# Altium schematic symbol library WE-XTAL.SchLib: 324 symbols (part 5 of 6)
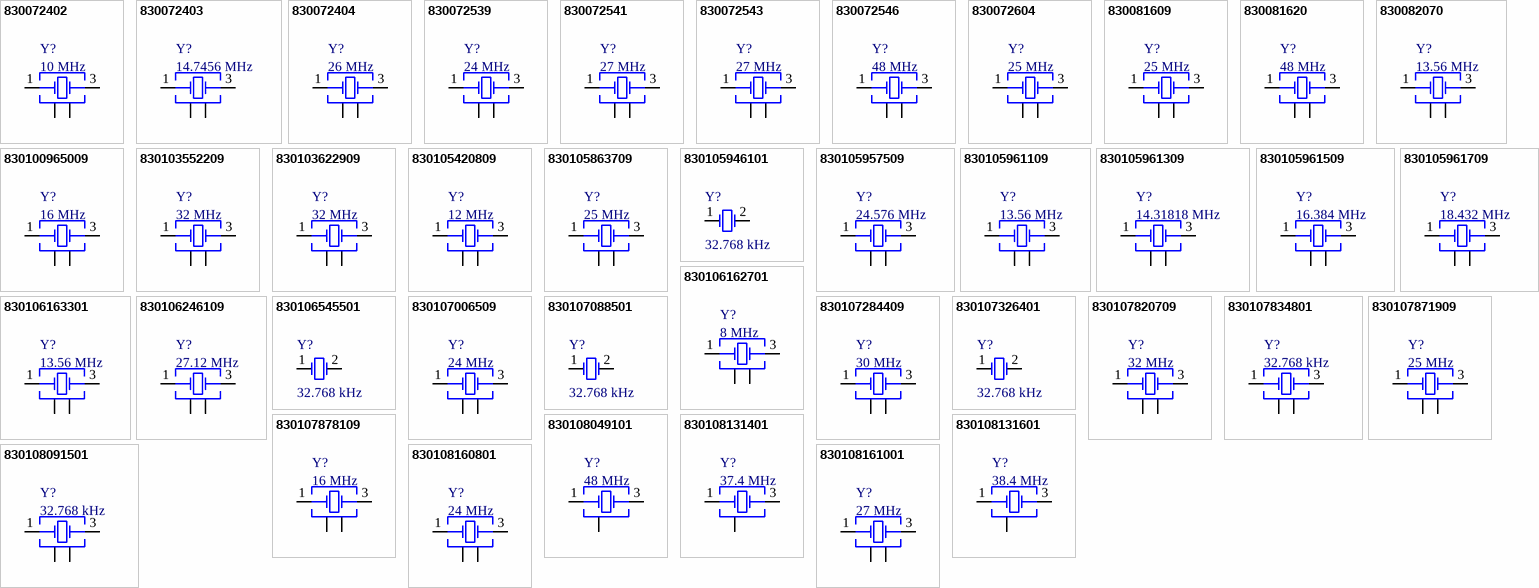
[diagram p12: symbols 830072402 to 830108161001]

## 830072403
designator Y?, comment 14.7456 MHz
WE-XTAL Quartz Crystal, SMT, CFPX-104, 14.7456 MHz, ±20ppm; Manufacturer Part Number: 830072403; Manufacturer: Wurth Elektronik; Frequency Stability: 30ppm; Load Capacitance: 18pF; Category: Crystals; Match Code: WE-XTAL; ComponentLink1Description: Website Link; ComponentLink1URL: https://www.we-online.com/redexpert/article/830072403?ad; ComponentLink2Description: Datasheet Link; ComponentLink2URL: https://www.we-online.com/redexpert/spec/830072403?ad; Mount: Surface Mount; Min Operating Temperature: -40°C; Max Operating Temperature: 85°C; Packaging: Tape and Reel; Case/Size Code: CFPX-104; Length: 5mm; Width: 3.2mm; Height: 1mm; Application: UART; Frequency: 14.7456 MHz; Frequency Tolerance: ±20ppm
footprint WE-XTAL_CFPX-104
pins: 1 Crystal, 2 GND & Lid, 3 Crystal, 4 GND & Lid

## 830072404
designator Y?, comment 26 MHz
WE-XTAL Quartz Crystal, SMT, CFPX-104, 26 MHz, ±20ppm; Manufacturer Part Number: 830072404; Manufacturer: Wurth Elektronik; Frequency Stability: 30ppm; Load Capacitance: 18pF; Category: Crystals; Match Code: WE-XTAL; ComponentLink1Description: Website Link; ComponentLink1URL: https://www.we-online.com/redexpert/article/830072404?ad; ComponentLink2Description: Datasheet Link; ComponentLink2URL: https://www.we-online.com/redexpert/spec/830072404?ad; Mount: Surface Mount; Min Operating Temperature: -40°C; Max Operating Temperature: 85°C; Packaging: Tape and Reel; Case/Size Code: CFPX-104; Length: 5mm; Width: 3.2mm; Height: 1mm; Application: CAN, Bluetooth, GPS, Small Cell; Frequency: 26 MHz; Frequency Tolerance: ±20ppm
footprint WE-XTAL_CFPX-104
pins: 1 Crystal, 2 GND & Lid, 3 Crystal, 4 GND & Lid

## 830072539
designator Y?, comment 24 MHz
WE-XTAL Quartz Crystal, SMT, IQXC-26, 24 MHz, ±15ppm; Manufacturer Part Number: 830072539; Manufacturer: Wurth Elektronik; Load Capacitance: 8pF; Category: Crystals; Match Code: WE-XTAL; ComponentLink1Description: Website Link; ComponentLink1URL: https://www.we-online.com/redexpert/article/830072539?ad; ComponentLink2Description: Datasheet Link; ComponentLink2URL: https://www.we-online.com/redexpert/spec/830072539?ad; Mount: Surface Mount; Min Operating Temperature: -20°C; Max Operating Temperature: 70°C; Packaging: Tape and Reel; Case/Size Code: IQXC-26; Length: 1.6mm; Width: 1.2mm; Height: 0.4mm; Application: Processor, USB, Bluetooth; Frequency: 24 MHz; Frequency Stability: 15ppm; Frequency Tolerance: ±15ppm
footprint WE-XTAL_IQXC-26
pins: 1 Crystal, 2 GND, 3 Crystal, 4 GND

## 830072541
designator Y?, comment 27 MHz
WE-XTAL Quartz Crystal, SMT, IQXC-26, 27 MHz, ±15ppm; Manufacturer Part Number: 830072541; Manufacturer: Wurth Elektronik; Load Capacitance: 8pF; Category: Crystals; Match Code: WE-XTAL; ComponentLink1Description: Website Link; ComponentLink1URL: https://www.we-online.com/redexpert/article/830072541?ad; ComponentLink2Description: Datasheet Link; ComponentLink2URL: https://www.we-online.com/redexpert/spec/830072541?ad; Mount: Surface Mount; Min Operating Temperature: -20°C; Max Operating Temperature: 70°C; Packaging: Tape and Reel; Case/Size Code: IQXC-26; Length: 1.6mm; Width: 1.2mm; Height: 0.4mm; Application: Processor; Frequency: 27 MHz; Frequency Stability: 15ppm; Frequency Tolerance: ±15ppm
footprint WE-XTAL_IQXC-26
pins: 1 Crystal, 2 GND, 3 Crystal, 4 GND

## 830072543
designator Y?, comment 27 MHz
WE-XTAL Quartz Crystal, SMT, IQXC-42, 27 MHz, ±15ppm; Manufacturer Part Number: 830072543; Manufacturer: Wurth Elektronik; Frequency Stability: 20ppm; Load Capacitance: 10pF; Category: Crystals; Match Code: WE-XTAL; ComponentLink1Description: Website Link; ComponentLink1URL: https://www.we-online.com/redexpert/article/830072543?ad; ComponentLink2Description: Datasheet Link; ComponentLink2URL: https://www.we-online.com/redexpert/spec/830072543?ad; Mount: Surface Mount; Min Operating Temperature: -40°C; Max Operating Temperature: 85°C; Packaging: Tape and Reel; Case/Size Code: IQXC-42; Length: 2mm; Width: 1.6mm; Height: 0.5mm; Application: Processor; Frequency: 27 MHz; Frequency Tolerance: ±15ppm
footprint WE-XTAL_IQXC-42
pins: 1 Crystal, 2 GND & Lid, 3 Crystal, 4 GND & Lid

## 830072546
designator Y?, comment 48 MHz
WE-XTAL Quartz Crystal, SMT, IQXC-42, 48 MHz, ±15ppm; Manufacturer Part Number: 830072546; Manufacturer: Wurth Elektronik; Frequency Stability: 20ppm; Load Capacitance: 10pF; Category: Crystals; Match Code: WE-XTAL; ComponentLink1Description: Website Link; ComponentLink1URL: https://www.we-online.com/redexpert/article/830072546?ad; ComponentLink2Description: Datasheet Link; ComponentLink2URL: https://www.we-online.com/redexpert/spec/830072546?ad; Mount: Surface Mount; Min Operating Temperature: -40°C; Max Operating Temperature: 85°C; Packaging: Tape and Reel; Case/Size Code: IQXC-42; Length: 2mm; Width: 1.6mm; Height: 0.5mm; Application: Processor, USB, Wi-Fi; Frequency: 48 MHz; Frequency Tolerance: ±15ppm
footprint WE-XTAL_IQXC-42
pins: 1 Crystal, 2 GND & Lid, 3 Crystal, 4 GND & Lid

## 830072604
designator Y?, comment 25 MHz
WE-XTAL Quartz Crystal, SMT, CFPX-180, 25 MHz, ±10ppm; Manufacturer Part Number: 830072604; Manufacturer: Wurth Elektronik; Frequency Stability: 20ppm; Load Capacitance: 8pF; Category: Crystals; Match Code: WE-XTAL; ComponentLink1Description: Website Link; ComponentLink1URL: https://www.we-online.com/redexpert/article/830072604?ad; ComponentLink2Description: Datasheet Link; ComponentLink2URL: https://www.we-online.com/redexpert/spec/830072604?ad; Mount: Surface Mount; Min Operating Temperature: -40°C; Max Operating Temperature: 85°C; Packaging: Tape and Reel; Case/Size Code: CFPX-180; Length: 3.2mm; Width: 2.5mm; Height: 0.8mm; Application: Processor, USB, 3G/4G/5G, Ethernet, Small Cell, PHY, PCI Express; Frequency: 25 MHz; Frequency Tolerance: ±10ppm
footprint WE-XTAL_CFPX-180
pins: 1 Crystal, 2 GND&Lid, 3 Crystal, 4 GND&Lid

## 830081609
designator Y?, comment 25 MHz
WE-XTAL Quartz Crystal, SMT, IQXC-26, 25 MHz, ±10ppm; Manufacturer Part Number: 830081609; Manufacturer: Wurth Elektronik; Frequency Stability: 20ppm; Load Capacitance: 8pF; Category: Crystals; Match Code: WE-XTAL; ComponentLink1Description: Website Link; ComponentLink1URL: https://www.we-online.com/redexpert/article/830081609?ad; ComponentLink2Description: Datasheet Link; ComponentLink2URL: https://www.we-online.com/redexpert/spec/830081609?ad; Mount: Surface Mount; Min Operating Temperature: -40°C; Max Operating Temperature: 85°C; Packaging: Tape and Reel; Case/Size Code: IQXC-26; Length: 1.6mm; Width: 1.2mm; Height: 0.4mm; Application: Processor, USB, 3G/4G/5G, Ethernet, Small Cell, PHY, PCI Express; Frequency: 25 MHz; Frequency Tolerance: ±10ppm
footprint WE-XTAL_IQXC-26
pins: 1 Crystal, 2 GND, 3 Crystal, 4 GND

## 830081620
designator Y?, comment 48 MHz
WE-XTAL Quartz Crystal, SMT, IQXC-26, 48 MHz, ±10ppm; Manufacturer Part Number: 830081620; Manufacturer: Wurth Elektronik; Frequency Stability: 20ppm; Load Capacitance: 8pF; Category: Crystals; Match Code: WE-XTAL; ComponentLink1Description: Website Link; ComponentLink1URL: https://www.we-online.com/redexpert/article/830081620?ad; ComponentLink2Description: Datasheet Link; ComponentLink2URL: https://www.we-online.com/redexpert/spec/830081620?ad; Mount: Surface Mount; Min Operating Temperature: -40°C; Max Operating Temperature: 85°C; Packaging: Tape and Reel; Case/Size Code: IQXC-26; Length: 1.6mm; Width: 1.2mm; Height: 0.4mm; Application: Processor, USB, Wi-Fi; Frequency: 48 MHz; Frequency Tolerance: ±10ppm
footprint WE-XTAL_IQXC-26
pins: 1 Crystal, 2 GND, 3 Crystal, 4 GND

## 830082070
designator Y?, comment 13.56 MHz
WE-XTAL Quartz Crystal, SMT, CFPX-180, 13.56 MHz, ±10ppm; Manufacturer Part Number: 830082070; Manufacturer: Wurth Elektronik; Frequency Stability: 20ppm; Load Capacitance: 8pF; Category: Crystals; Match Code: WE-XTAL; ComponentLink1Description: Website Link; ComponentLink1URL: https://www.we-online.com/redexpert/article/830082070?ad; ComponentLink2Description: Datasheet Link; ComponentLink2URL: https://www.we-online.com/redexpert/spec/830082070?ad; Mount: Surface Mount; Min Operating Temperature: -40°C; Max Operating Temperature: 85°C; Packaging: Tape and Reel; Case/Size Code: CFPX-180; Length: 3.2mm; Width: 2.5mm; Height: 0.8mm; Application: RFID; Frequency: 13.56 MHz; Frequency Tolerance: ±10ppm
footprint WE-XTAL_CFPX-180
pins: 1 Crystal, 2 GND&Lid, 3 Crystal, 4 GND&Lid

## 830100965009
designator Y?, comment 16 MHz
WE-XTAL Quartz Crystal, SMT, CFPX-180, 16 MHz, ±10ppm; Manufacturer Part Number: 830100965009; Manufacturer: Wurth Elektronik; Frequency Stability: 20ppm; Load Capacitance: 16pF; Category: Crystals; Match Code: WE-XTAL; ComponentLink1Description: Website Link; ComponentLink1URL: https://www.we-online.com/redexpert/article/830100965009?ad; ComponentLink2Description: Datasheet Link; ComponentLink2URL: https://www.we-online.com/redexpert/spec/830100965009?ad; Mount: Surface Mount; Min Operating Temperature: -40°C; Max Operating Temperature: 85°C; Packaging: Tape and Reel; Case/Size Code: CFPX-180; Length: 3.2mm; Width: 2.5mm; Height: 0.8mm; Application: Processor, CAN, Bluetooth; Frequency: 16 MHz; Frequency Tolerance: ±10ppm
footprint WE-XTAL_CFPX-180
pins: 1 Crystal, 2 GND&Lid, 3 Crystal, 4 GND&Lid

## 830103552209
designator Y?, comment 32 MHz
WE-XTAL Quartz Crystal, SMT, CFPX-180, 32 MHz, ±10ppm; Manufacturer Part Number: 830103552209; Manufacturer: Wurth Elektronik; Frequency Stability: 20ppm; Load Capacitance: 9pF; Category: Crystals; Match Code: WE-XTAL; ComponentLink1Description: Website Link; ComponentLink1URL: https://www.we-online.com/redexpert/article/830103552209?ad; ComponentLink2Description: Datasheet Link; ComponentLink2URL: https://www.we-online.com/redexpert/spec/830103552209?ad; Mount: Surface Mount; Min Operating Temperature: -40°C; Max Operating Temperature: 85°C; Packaging: Tape and Reel; Case/Size Code: CFPX-180; Length: 3.2mm; Width: 2.5mm; Height: 0.8mm; Application: Processor, Bluetooth; Frequency: 32 MHz; Frequency Tolerance: ±10ppm
footprint WE-XTAL_CFPX-180
pins: 1 Crystal, 2 GND&Lid, 3 Crystal, 4 GND&Lid

## 830103622909
designator Y?, comment 32 MHz
WE-XTAL Quartz Crystal, SMT, CFPX-180, 32 MHz, ±10ppm; Manufacturer Part Number: 830103622909; Manufacturer: Wurth Elektronik; Frequency Stability: 15ppm; Load Capacitance: 9pF; Category: Crystals; Match Code: WE-XTAL; ComponentLink1Description: Website Link; ComponentLink1URL: https://www.we-online.com/redexpert/article/830103622909?ad; ComponentLink2Description: Datasheet Link; ComponentLink2URL: https://www.we-online.com/redexpert/spec/830103622909?ad; Mount: Surface Mount; Min Operating Temperature: -40°C; Max Operating Temperature: 85°C; Packaging: Tape and Reel; Case/Size Code: CFPX-180; Length: 3.2mm; Width: 2.5mm; Height: 0.8mm; Application: Processor, Bluetooth; Frequency: 32 MHz; Frequency Tolerance: ±10ppm
footprint WE-XTAL_CFPX-180
pins: 1 Crystal, 2 GND&Lid, 3 Crystal, 4 GND&Lid

## 830105420809
designator Y?, comment 12 MHz
WE-XTAL Quartz Crystal, SMT, CFPX-180, 12 MHz, ±10ppm; Manufacturer Part Number: 830105420809; Manufacturer: Wurth Elektronik; Load Capacitance: 10pF; Category: Crystals; Match Code: WE-XTAL; ComponentLink1Description: Website Link; ComponentLink1URL: https://www.we-online.com/redexpert/article/830105420809?ad; ComponentLink2Description: Datasheet Link; ComponentLink2URL: https://www.we-online.com/redexpert/spec/830105420809?ad; Mount: Surface Mount; Min Operating Temperature: -20°C; Max Operating Temperature: 70°C; Packaging: Tape and Reel; Case/Size Code: CFPX-180; Length: 3.2mm; Width: 2.5mm; Height: 0.8mm; Application: Processor, USB, CAN; Frequency: 12 MHz; Frequency Stability: 10ppm; Frequency Tolerance: ±10ppm
footprint WE-XTAL_CFPX-180
pins: 1 Crystal, 2 GND&Lid, 3 Crystal, 4 GND&Lid

## 830105863709
designator Y?, comment 25 MHz
WE-XTAL Quartz Crystal, SMT, CFPX-180, 25 MHz, ±30ppm; Manufacturer Part Number: 830105863709; Manufacturer: Wurth Elektronik; Load Capacitance: 12pF; Category: Crystals; Match Code: WE-XTAL; ComponentLink1Description: Website Link; ComponentLink1URL: https://www.we-online.com/redexpert/article/830105863709?ad; ComponentLink2Description: Datasheet Link; ComponentLink2URL: https://www.we-online.com/redexpert/spec/830105863709?ad; Mount: Surface Mount; Min Operating Temperature: -40°C; Max Operating Temperature: 85°C; Packaging: Tape and Reel; Case/Size Code: CFPX-180; Length: 3.2mm; Width: 2.5mm; Height: 0.8mm; Application: Processor, USB, 3G/4G/5G, Ethernet, Small Cell, PHY, PCI Express; Frequency: 25 MHz; Frequency Stability: 30ppm; Frequency Tolerance: ±30ppm
footprint WE-XTAL_CFPX-180
pins: 1 Crystal, 2 GND&Lid, 3 Crystal, 4 GND&Lid

## 830105946101
designator Y?, comment 32.768 kHz
WE-XTAL Watch Crystal, SMT, IQXC-25, 32.768 kHz, ±20ppm; Manufacturer Part Number: 830105946101; Manufacturer: Wurth Elektronik; Load Capacitance: 7pF; Category: Crystals; Match Code: WE-XTAL; ComponentLink1Description: Website Link; ComponentLink1URL: https://www.we-online.com/redexpert/article/830105946101?ad; ComponentLink2Description: Datasheet Link; ComponentLink2URL: https://www.we-online.com/redexpert/spec/830105946101?ad; Mount: Surface Mount; Min Operating Temperature: -40°C; Max Operating Temperature: 85°C; Packaging: Tape and Reel; Case/Size Code: IQXC-25; Length: 2mm; Width: 1.2mm; Height: 0.6mm; Application: Real Time Clock; Frequency: 32.768 kHz; Frequency Tolerance: ±20ppm
footprint WE-XTAL_IQXC-25
pins: 1 OSC1, 2 OSC2

## 830105957509
designator Y?, comment 24.576 MHz
WE-XTAL Quartz Crystal, SMT, CFPX-180, 24.576 MHz, ±20ppm; Manufacturer Part Number: 830105957509; Manufacturer: Wurth Elektronik; Frequency Stability: 30ppm; Load Capacitance: 18pF; Category: Crystals; Match Code: WE-XTAL; ComponentLink1Description: Website Link; ComponentLink1URL: https://www.we-online.com/redexpert/article/830105957509?ad; ComponentLink2Description: Datasheet Link; ComponentLink2URL: https://www.we-online.com/redexpert/spec/830105957509?ad; Mount: Surface Mount; Min Operating Temperature: -40°C; Max Operating Temperature: 85°C; Packaging: Tape and Reel; Case/Size Code: CFPX-180; Length: 3.2mm; Width: 2.5mm; Height: 0.8mm; Application: UART, Audio; Frequency: 24.576 MHz; Frequency Tolerance: ±20ppm
footprint WE-XTAL_CFPX-180
pins: 1 Crystal, 2 GND&Lid, 3 Crystal, 4 GND&Lid

## 830105961109
designator Y?, comment 13.56 MHz
WE-XTAL Quartz Crystal, SMT, CFPX-180, 13.56 MHz, ±20ppm; Manufacturer Part Number: 830105961109; Manufacturer: Wurth Elektronik; Frequency Stability: 30ppm; Load Capacitance: 18pF; Category: Crystals; Match Code: WE-XTAL; ComponentLink1Description: Website Link; ComponentLink1URL: https://www.we-online.com/redexpert/article/830105961109?ad; ComponentLink2Description: Datasheet Link; ComponentLink2URL: https://www.we-online.com/redexpert/spec/830105961109?ad; Mount: Surface Mount; Min Operating Temperature: -40°C; Max Operating Temperature: 85°C; Packaging: Tape and Reel; Case/Size Code: CFPX-180; Length: 3.2mm; Width: 2.5mm; Height: 0.8mm; Application: RFID; Frequency: 13.56 MHz; Frequency Tolerance: ±20ppm
footprint WE-XTAL_CFPX-180
pins: 1 Crystal, 2 GND&Lid, 3 Crystal, 4 GND&Lid

## 830105961309
designator Y?, comment 14.31818 MHz
WE-XTAL Quartz Crystal, SMT, CFPX-180, 14.31818 MHz, ±20ppm; Manufacturer Part Number: 830105961309; Manufacturer: Wurth Elektronik; Frequency Stability: 30ppm; Load Capacitance: 18pF; Category: Crystals; Match Code: WE-XTAL; ComponentLink1Description: Website Link; ComponentLink1URL: https://www.we-online.com/redexpert/article/830105961309?ad; ComponentLink2Description: Datasheet Link; ComponentLink2URL: https://www.we-online.com/redexpert/spec/830105961309?ad; Mount: Surface Mount; Min Operating Temperature: -40°C; Max Operating Temperature: 85°C; Packaging: Tape and Reel; Case/Size Code: CFPX-180; Length: 3.2mm; Width: 2.5mm; Height: 0.8mm; Application: Processor; Frequency: 14.31818 MHz; Frequency Tolerance: ±20ppm
footprint WE-XTAL_CFPX-180
pins: 1 Crystal, 2 GND&Lid, 3 Crystal, 4 GND&Lid

## 830105961509
designator Y?, comment 16.384 MHz
WE-XTAL Quartz Crystal, SMT, CFPX-180, 16.384 MHz, ±20ppm; Manufacturer Part Number: 830105961509; Manufacturer: Wurth Elektronik; Frequency Stability: 30ppm; Load Capacitance: 18pF; Category: Crystals; Match Code: WE-XTAL; ComponentLink1Description: Website Link; ComponentLink1URL: https://www.we-online.com/redexpert/article/830105961509?ad; ComponentLink2Description: Datasheet Link; ComponentLink2URL: https://www.we-online.com/redexpert/spec/830105961509?ad; Mount: Surface Mount; Min Operating Temperature: -40°C; Max Operating Temperature: 85°C; Packaging: Tape and Reel; Case/Size Code: CFPX-180; Length: 3.2mm; Width: 2.5mm; Height: 0.8mm; Application: Audio, GPS; Frequency: 16.384 MHz; Frequency Tolerance: ±20ppm
footprint WE-XTAL_CFPX-180
pins: 1 Crystal, 2 GND&Lid, 3 Crystal, 4 GND&Lid

## 830105961709
designator Y?, comment 18.432 MHz
WE-XTAL Quartz Crystal, SMT, CFPX-180, 18.432 MHz, ±20ppm; Manufacturer Part Number: 830105961709; Manufacturer: Wurth Elektronik; Frequency Stability: 30ppm; Load Capacitance: 18pF; Category: Crystals; Match Code: WE-XTAL; ComponentLink1Description: Website Link; ComponentLink1URL: https://www.we-online.com/redexpert/article/830105961709?ad; ComponentLink2Description: Datasheet Link; ComponentLink2URL: https://www.we-online.com/redexpert/spec/830105961709?ad; Mount: Surface Mount; Min Operating Temperature: -40°C; Max Operating Temperature: 85°C; Packaging: Tape and Reel; Case/Size Code: CFPX-180; Length: 3.2mm; Width: 2.5mm; Height: 0.8mm; Application: UART, Audio; Frequency: 18.432 MHz; Frequency Tolerance: ±20ppm
footprint WE-XTAL_CFPX-180
pins: 1 Crystal, 2 GND&Lid, 3 Crystal, 4 GND&Lid

## 830106162701
designator Y?, comment 8 MHz
WE-XTAL Quartz Crystal, SMT, CFPX-104, 8 MHz, ±20ppm; Manufacturer Part Number: 830106162701; Manufacturer: Wurth Elektronik; Frequency Stability: 30ppm; Load Capacitance: 16pF; Category: Crystals; Match Code: WE-XTAL; ComponentLink1Description: Website Link; ComponentLink1URL: https://www.we-online.com/redexpert/article/830106162701?ad; ComponentLink2Description: Datasheet Link; ComponentLink2URL: https://www.we-online.com/redexpert/spec/830106162701?ad; Mount: Surface Mount; Min Operating Temperature: -40°C; Max Operating Temperature: 85°C; Packaging: Tape and Reel; Case/Size Code: CFPX-104; Length: 5mm; Width: 3.2mm; Height: 1mm; Application: Processor, UART; Frequency: 8 MHz; Frequency Tolerance: ±20ppm
footprint WE-XTAL_CFPX-104
pins: 1 Crystal, 2 GND & Lid, 3 Crystal, 4 GND & Lid

## 830106163301
designator Y?, comment 13.56 MHz
WE-XTAL Quartz Crystal, SMT, CFPX-104, 13.56 MHz, ±20ppm; Manufacturer Part Number: 830106163301; Manufacturer: Wurth Elektronik; Frequency Stability: 30ppm; Load Capacitance: 16pF; Category: Crystals; Match Code: WE-XTAL; ComponentLink1Description: Website Link; ComponentLink1URL: https://www.we-online.com/redexpert/article/830106163301?ad; ComponentLink2Description: Datasheet Link; ComponentLink2URL: https://www.we-online.com/redexpert/spec/830106163301?ad; Mount: Surface Mount; Min Operating Temperature: -40°C; Max Operating Temperature: 85°C; Packaging: Tape and Reel; Case/Size Code: CFPX-104; Length: 5mm; Width: 3.2mm; Height: 1mm; Application: RFID; Frequency: 13.56 MHz; Frequency Tolerance: ±20ppm
footprint WE-XTAL_CFPX-104
pins: 1 Crystal, 2 GND & Lid, 3 Crystal, 4 GND & Lid

## 830106246109
designator Y?, comment 27.12 MHz
WE-XTAL Quartz Crystal, SMT, CFPX-180, 27.12 MHz, ±10ppm; Manufacturer Part Number: 830106246109; Manufacturer: Wurth Elektronik; Frequency Stability: 20ppm; Load Capacitance: 10pF; Category: Crystals; Match Code: WE-XTAL; ComponentLink1Description: Website Link; ComponentLink1URL: https://www.we-online.com/redexpert/article/830106246109?ad; ComponentLink2Description: Datasheet Link; ComponentLink2URL: https://www.we-online.com/redexpert/spec/830106246109?ad; Mount: Surface Mount; Min Operating Temperature: -40°C; Max Operating Temperature: 85°C; Packaging: Tape and Reel; Case/Size Code: CFPX-180; Length: 3.2mm; Width: 2.5mm; Height: 0.8mm; Application: NFC, RFID; Frequency: 27.12 MHz; Frequency Tolerance: ±10ppm
footprint WE-XTAL_CFPX-180
pins: 1 Crystal, 2 GND&Lid, 3 Crystal, 4 GND&Lid

## 830106545501
designator Y?, comment 32.768 kHz
WE-XTAL Watch Crystal, SMT, IQXC-25, 32.768 kHz, ±20ppm; Manufacturer Part Number: 830106545501; Manufacturer: Wurth Elektronik; Load Capacitance: 6pF; Category: Crystals; Match Code: WE-XTAL; ComponentLink1Description: Website Link; ComponentLink1URL: https://www.we-online.com/redexpert/article/830106545501?ad; ComponentLink2Description: Datasheet Link; ComponentLink2URL: https://www.we-online.com/redexpert/spec/830106545501?ad; Mount: Surface Mount; Min Operating Temperature: -40°C; Max Operating Temperature: 85°C; Packaging: Tape and Reel; Case/Size Code: IQXC-25; Length: 2mm; Width: 1.2mm; Height: 0.6mm; Application: Real Time Clock; Frequency: 32.768 kHz; Frequency Tolerance: ±20ppm
footprint WE-XTAL_IQXC-25
pins: 1 OSC1, 2 OSC2

## 830107006509
designator Y?, comment 24 MHz
WE-XTAL Quartz Crystal, SMT, CFPX-180, 24 MHz, ±10ppm; Manufacturer Part Number: 830107006509; Manufacturer: Wurth Elektronik; Frequency Stability: 15ppm; Load Capacitance: 9pF; Category: Crystals; Match Code: WE-XTAL; ComponentLink1Description: Website Link; ComponentLink1URL: https://www.we-online.com/redexpert/article/830107006509?ad; ComponentLink2Description: Datasheet Link; ComponentLink2URL: https://www.we-online.com/redexpert/spec/830107006509?ad; Mount: Surface Mount; Min Operating Temperature: -40°C; Max Operating Temperature: 85°C; Packaging: Tape and Reel; Case/Size Code: CFPX-180; Length: 3.2mm; Width: 2.5mm; Height: 0.8mm; Application: Processor, USB, Bluetooth; Frequency: 24 MHz; Frequency Tolerance: ±10ppm
footprint WE-XTAL_CFPX-180
pins: 1 Crystal, 2 GND&Lid, 3 Crystal, 4 GND&Lid

## 830107088501
designator Y?, comment 32.768 kHz
WE-XTAL Watch Crystal, SMT, IQXC-90, 32.768 kHz, ±20ppm; Manufacturer Part Number: 830107088501; Manufacturer: Wurth Elektronik; Load Capacitance: 6pF; Category: Crystals; Match Code: WE-XTAL; ComponentLink1Description: Website Link; ComponentLink1URL: https://www.we-online.com/redexpert/article/830107088501?ad; ComponentLink2Description: Datasheet Link; ComponentLink2URL: https://www.we-online.com/redexpert/spec/830107088501?ad; Mount: Surface Mount; Min Operating Temperature: -40°C; Max Operating Temperature: 85°C; Packaging: Tape and Reel; Case/Size Code: IQXC-90; Length: 1.6mm; Width: 1mm; Height: 0.5mm; Application: Real Time Clock; Frequency: 32.768 kHz; Frequency Tolerance: ±20ppm
footprint WE-XTAL_IQXC-90
pins: 1 OSC1, 2 OSC2

## 830107284409
designator Y?, comment 30 MHz
WE-XTAL Quartz Crystal, SMT, CFPX-218, 30 MHz, ±10ppm; Manufacturer Part Number: 830107284409; Manufacturer: Wurth Elektronik; Load Capacitance: 10pF; Category: Crystals; Match Code: WE-XTAL; ComponentLink1Description: Website Link; ComponentLink1URL: https://www.we-online.com/redexpert/article/830107284409?ad; ComponentLink2Description: Datasheet Link; ComponentLink2URL: https://www.we-online.com/redexpert/spec/830107284409?ad; Mount: Surface Mount; Min Operating Temperature: -20°C; Max Operating Temperature: 70°C; Packaging: Tape and Reel; Case/Size Code: CFPX-218; Length: 2.5mm; Width: 2mm; Height: 0.65mm; Application: Processor, USB; Frequency: 30 MHz; Frequency Stability: 10ppm; Frequency Tolerance: ±10ppm
footprint WE-XTAL_CFPX-218
pins: 1 Crystal, 2 GND, 3 Crystal, 4 GND

## 830107326401
designator Y?, comment 32.768 kHz
WE-XTAL Watch Crystal, SMT, IQXC-25, 32.768 kHz, ±20ppm; Manufacturer Part Number: 830107326401; Manufacturer: Wurth Elektronik; Load Capacitance: 4pF; Category: Crystals; Match Code: WE-XTAL; ComponentLink1Description: Website Link; ComponentLink1URL: https://www.we-online.com/redexpert/article/830107326401?ad; ComponentLink2Description: Datasheet Link; ComponentLink2URL: https://www.we-online.com/redexpert/spec/830107326401?ad; Mount: Surface Mount; Min Operating Temperature: -40°C; Max Operating Temperature: 85°C; Packaging: Tape and Reel; Case/Size Code: IQXC-25; Length: 2mm; Width: 1.2mm; Height: 0.6mm; Application: Real Time Clock; Frequency: 32.768 kHz; Frequency Tolerance: ±20ppm
footprint WE-XTAL_IQXC-25
pins: 1 OSC1, 2 OSC2

## 830107820709
designator Y?, comment 32 MHz
WE-XTAL Quartz Crystal, SMT, CFPX-218, 32 MHz, ±10ppm; Manufacturer Part Number: 830107820709; Manufacturer: Wurth Elektronik; Load Capacitance: 10pF; Category: Crystals; Match Code: WE-XTAL; ComponentLink1Description: Website Link; ComponentLink1URL: https://www.we-online.com/redexpert/article/830107820709?ad; ComponentLink2Description: Datasheet Link; ComponentLink2URL: https://www.we-online.com/redexpert/spec/830107820709?ad; Mount: Surface Mount; Min Operating Temperature: -20°C; Max Operating Temperature: 70°C; Packaging: Tape and Reel; Case/Size Code: CFPX-218; Length: 2.5mm; Width: 2mm; Height: 0.65mm; Application: Processor, Bluetooth; Frequency: 32 MHz; Frequency Stability: 10ppm; Frequency Tolerance: ±10ppm
footprint WE-XTAL_CFPX-218
pins: 1 Crystal, 2 GND, 3 Crystal, 4 GND

## 830107834801
designator Y?, comment 32.768 kHz
WE-XTAL Watch Crystal, SMT, IQXC-146, 32.768 kHz, ±20ppm; Manufacturer Part Number: 830107834801; Manufacturer: Wurth Elektronik; Load Capacitance: 6pF; Category: Crystals; Match Code: WE-XTAL; ComponentLink1Description: Website Link; ComponentLink1URL: https://www.we-online.com/redexpert/article/830107834801?ad; ComponentLink2Description: Datasheet Link; ComponentLink2URL: https://www.we-online.com/redexpert/spec/830107834801?ad; Mount: Surface Mount; Min Operating Temperature: -40°C; Max Operating Temperature: 85°C; Packaging: Tape and Reel; Case/Size Code: IQXC-146; Length: 1.2mm; Width: 1mm; Height: 0.5mm; Application: Real Time Clock; Frequency: 32.768 kHz; Frequency Tolerance: ±20ppm
footprint WE-XTAL_IQXC-146
pins: 1 Crystal, 2 GND, 3 Crystal, 4 GND

## 830107871909
designator Y?, comment 25 MHz
WE-XTAL Quartz Crystal, SMT, CFPX-218, 25 MHz, ±10ppm; Manufacturer Part Number: 830107871909; Manufacturer: Wurth Elektronik; Load Capacitance: 10pF; Category: Crystals; Match Code: WE-XTAL; ComponentLink1Description: Website Link; ComponentLink1URL: https://www.we-online.com/redexpert/article/830107871909?ad; ComponentLink2Description: Datasheet Link; ComponentLink2URL: https://www.we-online.com/redexpert/spec/830107871909?ad; Mount: Surface Mount; Min Operating Temperature: -20°C; Max Operating Temperature: 70°C; Packaging: Tape and Reel; Case/Size Code: CFPX-218; Length: 2.5mm; Width: 2mm; Height: 0.65mm; Application: Processor, USB, 3G/4G/5G, Ethernet, Small Cell, PHY, PCI Express; Frequency: 25 MHz; Frequency Stability: 10ppm; Frequency Tolerance: ±10ppm
footprint WE-XTAL_CFPX-218
pins: 1 Crystal, 2 GND, 3 Crystal, 4 GND

## 830107878109
designator Y?, comment 16 MHz
WE-XTAL Quartz Crystal, SMT, CFPX-180, 16 MHz, ±30ppm; Manufacturer Part Number: 830107878109; Manufacturer: Wurth Elektronik; Frequency Stability: 50ppm; Load Capacitance: 12pF; Category: Crystals; Match Code: WE-XTAL; ComponentLink1Description: Website Link; ComponentLink1URL: https://www.we-online.com/redexpert/article/830107878109?ad; ComponentLink2Description: Datasheet Link; ComponentLink2URL: https://www.we-online.com/redexpert/spec/830107878109?ad; Mount: Surface Mount; Min Operating Temperature: -40°C; Max Operating Temperature: 125°C; Packaging: Tape and Reel; Case/Size Code: CFPX-180; Length: 3.2mm; Width: 2.5mm; Height: 0.8mm; Application: Processor, CAN, Bluetooth; Frequency: 16 MHz; Frequency Tolerance: ±30ppm
footprint WE-XTAL_CFPX-180
pins: 1 Crystal, 2 GND&Lid, 3 Crystal, 4 GND&Lid

## 830108049101
designator Y?, comment 48 MHz
WE-XTAL Quartz Crystal, SMT, IQXC-240, 48 MHz, ±10ppm; Manufacturer Part Number: 830108049101; Manufacturer: Wurth Elektronik; Load Capacitance: 8pF; Category: Crystals; Match Code: WE-XTAL; ComponentLink1Description: Website Link; ComponentLink1URL: https://www.we-online.com/redexpert/article/830108049101?ad; ComponentLink2Description: Datasheet Link; ComponentLink2URL: https://www.we-online.com/redexpert/spec/830108049101?ad; Mount: Surface Mount; Min Operating Temperature: -30°C; Max Operating Temperature: 85°C; Packaging: Tape and Reel; Case/Size Code: IQXC-240; Length: 1.2mm; Width: 1mm; Height: 0.33mm; Application: Processor, USB, Wi-Fi; Frequency: 48 MHz; Frequency Stability: 10ppm; Frequency Tolerance: ±10ppm
footprint WE-XTAL_IQXC-240
pins: 1 Crystal, 2 GND, 3 Crystal

## 830108091501
designator Y?, comment 32.768 kHz
WE-XTAL Watch Crystal, SMT, IQXC-146, 32.768 kHz, ±20ppm; Manufacturer Part Number: 830108091501; Manufacturer: Wurth Elektronik; Load Capacitance: 12.5pF; Category: Crystals; Match Code: WE-XTAL; ComponentLink1Description: Website Link; ComponentLink1URL: https://www.we-online.com/redexpert/article/830108091501?ad; ComponentLink2Description: Datasheet Link; ComponentLink2URL: https://www.we-online.com/redexpert/spec/830108091501?ad; Mount: Surface Mount; Min Operating Temperature: -40°C; Max Operating Temperature: 85°C; Packaging: Tape and Reel; Case/Size Code: IQXC-146; Length: 1.2mm; Width: 1mm; Height: 0.5mm; Application: Real Time Clock; Frequency: 32.768 kHz; Frequency Tolerance: ±20ppm
footprint WE-XTAL_IQXC-146
pins: 1 Crystal, 2 GND, 3 Crystal, 4 GND

## 830108131401
designator Y?, comment 37.4 MHz
WE-XTAL Quartz Crystal, SMT, IQXC-240, 37.4 MHz, ±7ppm; Manufacturer Part Number: 830108131401; Manufacturer: Wurth Elektronik; Frequency Stability: 15ppm; Load Capacitance: 5pF; Category: Crystals; Match Code: WE-XTAL; ComponentLink1Description: Website Link; ComponentLink1URL: https://www.we-online.com/redexpert/article/830108131401?ad; ComponentLink2Description: Datasheet Link; ComponentLink2URL: https://www.we-online.com/redexpert/spec/830108131401?ad; Mount: Surface Mount; Min Operating Temperature: -30°C; Max Operating Temperature: 85°C; Packaging: Tape and Reel; Case/Size Code: IQXC-240; Length: 1.2mm; Width: 1mm; Height: 0.33mm; Application: Wi-Fi; Frequency: 37.4 MHz; Frequency Tolerance: ±7ppm
footprint WE-XTAL_IQXC-240
pins: 1 Crystal, 2 GND, 3 Crystal

## 830108131601
designator Y?, comment 38.4 MHz
WE-XTAL Quartz Crystal, SMT, IQXC-240, 38.4 MHz, ±7ppm; Manufacturer Part Number: 830108131601; Manufacturer: Wurth Elektronik; Frequency Stability: 15ppm; Load Capacitance: 5pF; Category: Crystals; Match Code: WE-XTAL; ComponentLink1Description: Website Link; ComponentLink1URL: https://www.we-online.com/redexpert/article/830108131601?ad; ComponentLink2Description: Datasheet Link; ComponentLink2URL: https://www.we-online.com/redexpert/spec/830108131601?ad; Mount: Surface Mount; Min Operating Temperature: -30°C; Max Operating Temperature: 85°C; Packaging: Tape and Reel; Case/Size Code: IQXC-240; Length: 1.2mm; Width: 1mm; Height: 0.33mm; Application: 3G/4G/5G, Audio, Small Cell, UART; Frequency: 38.4 MHz; Frequency Tolerance: ±7ppm
footprint WE-XTAL_IQXC-240
pins: 1 Crystal, 2 GND, 3 Crystal

## 830108160801
designator Y?, comment 24 MHz
WE-XTAL Quartz Crystal, SMT, IQXC-26, 24 MHz, ±10ppm; Manufacturer Part Number: 830108160801; Manufacturer: Wurth Elektronik; Frequency Stability: 20ppm; Load Capacitance: 8pF; Category: Crystals; Match Code: WE-XTAL; ComponentLink1Description: Website Link; ComponentLink1URL: https://www.we-online.com/redexpert/article/830108160801?ad; ComponentLink2Description: Datasheet Link; ComponentLink2URL: https://www.we-online.com/redexpert/spec/830108160801?ad; Mount: Surface Mount; Min Operating Temperature: -40°C; Max Operating Temperature: 85°C; Packaging: Tape and Reel; Case/Size Code: IQXC-26; Length: 1.6mm; Width: 1.2mm; Height: 0.4mm; Application: Processor, USB, Bluetooth; Frequency: 24 MHz; Frequency Tolerance: ±10ppm
footprint WE-XTAL_IQXC-26
pins: 1 Crystal, 2 GND, 3 Crystal, 4 GND

## 830108161001
designator Y?, comment 27 MHz
WE-XTAL Quartz Crystal, SMT, IQXC-26, 27 MHz, ±10ppm; Manufacturer Part Number: 830108161001; Manufacturer: Wurth Elektronik; Frequency Stability: 20ppm; Load Capacitance: 8pF; Category: Crystals; Match Code: WE-XTAL; ComponentLink1Description: Website Link; ComponentLink1URL: https://www.we-online.com/redexpert/article/830108161001?ad; ComponentLink2Description: Datasheet Link; ComponentLink2URL: https://www.we-online.com/redexpert/spec/830108161001?ad; Mount: Surface Mount; Min Operating Temperature: -40°C; Max Operating Temperature: 85°C; Packaging: Tape and Reel; Case/Size Code: IQXC-26; Length: 1.6mm; Width: 1.2mm; Height: 0.4mm; Application: Processor; Frequency: 27 MHz; Frequency Tolerance: ±10ppm
footprint WE-XTAL_IQXC-26
pins: 1 Crystal, 2 GND, 3 Crystal, 4 GND

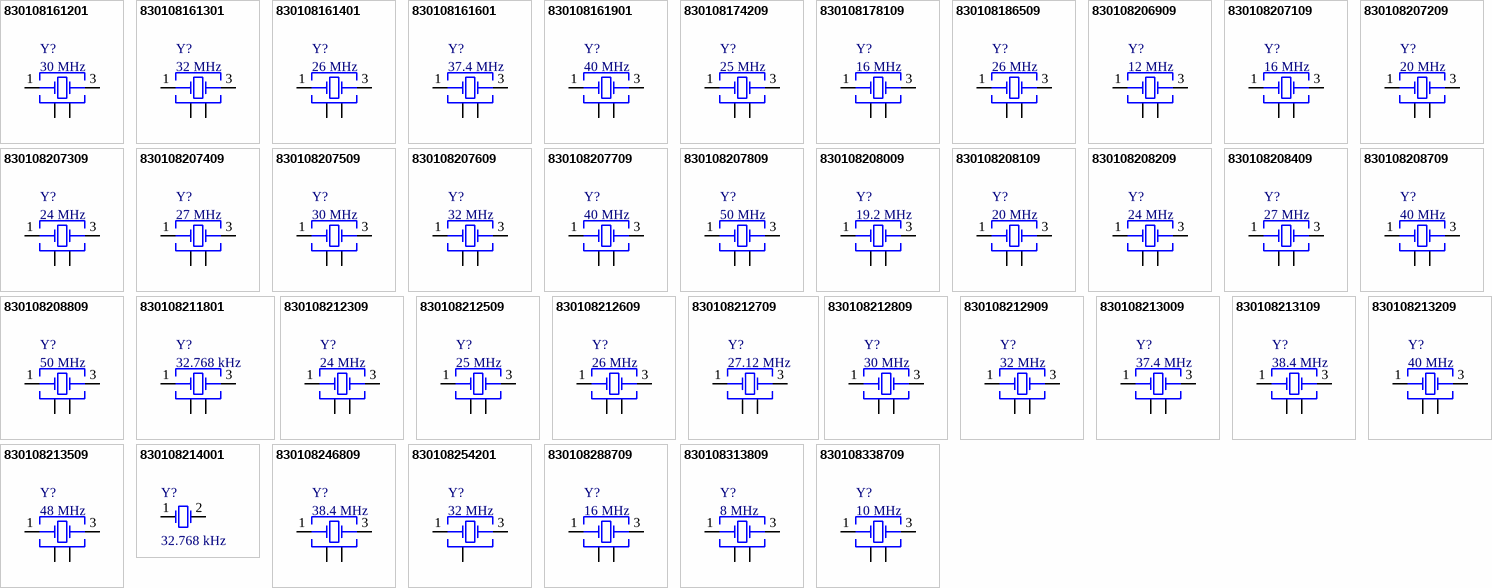
[diagram p7: symbols 830108161201 to 830108338709]

## 830108161201
designator Y?, comment 30 MHz
WE-XTAL Quartz Crystal, SMT, IQXC-26, 30 MHz, ±10ppm; Manufacturer Part Number: 830108161201; Manufacturer: Wurth Elektronik; Frequency Stability: 20ppm; Load Capacitance: 8pF; Category: Crystals; Match Code: WE-XTAL; ComponentLink1Description: Website Link; ComponentLink1URL: https://www.we-online.com/redexpert/article/830108161201?ad; ComponentLink2Description: Datasheet Link; ComponentLink2URL: https://www.we-online.com/redexpert/spec/830108161201?ad; Mount: Surface Mount; Min Operating Temperature: -40°C; Max Operating Temperature: 85°C; Packaging: Tape and Reel; Case/Size Code: IQXC-26; Length: 1.6mm; Width: 1.2mm; Height: 0.4mm; Application: Processor, USB; Frequency: 30 MHz; Frequency Tolerance: ±10ppm
footprint WE-XTAL_IQXC-26
pins: 1 Crystal, 2 GND, 3 Crystal, 4 GND

## 830108161301
designator Y?, comment 32 MHz
WE-XTAL Quartz Crystal, SMT, IQXC-26, 32 MHz, ±10ppm; Manufacturer Part Number: 830108161301; Manufacturer: Wurth Elektronik; Frequency Stability: 20ppm; Load Capacitance: 8pF; Category: Crystals; Match Code: WE-XTAL; ComponentLink1Description: Website Link; ComponentLink1URL: https://www.we-online.com/redexpert/article/830108161301?ad; ComponentLink2Description: Datasheet Link; ComponentLink2URL: https://www.we-online.com/redexpert/spec/830108161301?ad; Mount: Surface Mount; Min Operating Temperature: -40°C; Max Operating Temperature: 85°C; Packaging: Tape and Reel; Case/Size Code: IQXC-26; Length: 1.6mm; Width: 1.2mm; Height: 0.4mm; Application: Processor, Bluetooth; Frequency: 32 MHz; Frequency Tolerance: ±10ppm
footprint WE-XTAL_IQXC-26
pins: 1 Crystal, 2 GND, 3 Crystal, 4 GND

## 830108161401
designator Y?, comment 26 MHz
WE-XTAL Quartz Crystal, SMT, IQXC-26, 26 MHz, ±10ppm; Manufacturer Part Number: 830108161401; Manufacturer: Wurth Elektronik; Frequency Stability: 20ppm; Load Capacitance: 8pF; Category: Crystals; Match Code: WE-XTAL; ComponentLink1Description: Website Link; ComponentLink1URL: https://www.we-online.com/redexpert/article/830108161401?ad; ComponentLink2Description: Datasheet Link; ComponentLink2URL: https://www.we-online.com/redexpert/spec/830108161401?ad; Mount: Surface Mount; Min Operating Temperature: -40°C; Max Operating Temperature: 85°C; Packaging: Tape and Reel; Case/Size Code: IQXC-26; Length: 1.6mm; Width: 1.2mm; Height: 0.4mm; Application: CAN, Bluetooth, GPS, Small Cell; Frequency: 26 MHz; Frequency Tolerance: ±10ppm
footprint WE-XTAL_IQXC-26
pins: 1 Crystal, 2 GND, 3 Crystal, 4 GND

## 830108161601
designator Y?, comment 37.4 MHz
WE-XTAL Quartz Crystal, SMT, IQXC-26, 37.4 MHz, ±10ppm; Manufacturer Part Number: 830108161601; Manufacturer: Wurth Elektronik; Frequency Stability: 20ppm; Load Capacitance: 8pF; Category: Crystals; Match Code: WE-XTAL; ComponentLink1Description: Website Link; ComponentLink1URL: https://www.we-online.com/redexpert/article/830108161601?ad; ComponentLink2Description: Datasheet Link; ComponentLink2URL: https://www.we-online.com/redexpert/spec/830108161601?ad; Mount: Surface Mount; Min Operating Temperature: -40°C; Max Operating Temperature: 85°C; Packaging: Tape and Reel; Case/Size Code: IQXC-26; Length: 1.6mm; Width: 1.2mm; Height: 0.4mm; Application: Wi-Fi; Frequency: 37.4 MHz; Frequency Tolerance: ±10ppm
footprint WE-XTAL_IQXC-26
pins: 1 Crystal, 2 GND, 3 Crystal, 4 GND

## 830108161901
designator Y?, comment 40 MHz
WE-XTAL Quartz Crystal, SMT, IQXC-26, 40 MHz, ±10ppm; Manufacturer Part Number: 830108161901; Manufacturer: Wurth Elektronik; Frequency Stability: 20ppm; Load Capacitance: 8pF; Category: Crystals; Match Code: WE-XTAL; ComponentLink1Description: Website Link; ComponentLink1URL: https://www.we-online.com/redexpert/article/830108161901?ad; ComponentLink2Description: Datasheet Link; ComponentLink2URL: https://www.we-online.com/redexpert/spec/830108161901?ad; Mount: Surface Mount; Min Operating Temperature: -40°C; Max Operating Temperature: 85°C; Packaging: Tape and Reel; Case/Size Code: IQXC-26; Length: 1.6mm; Width: 1.2mm; Height: 0.4mm; Application: Processor, USB, 3G/4G/5G, CAN, Wi-Fi; Frequency: 40 MHz; Frequency Tolerance: ±10ppm
footprint WE-XTAL_IQXC-26
pins: 1 Crystal, 2 GND, 3 Crystal, 4 GND

## 830108174209
designator Y?, comment 25 MHz
WE-XTAL Quartz Crystal, SMT, CFPX-180, 25 MHz, ±10ppm; Manufacturer Part Number: 830108174209; Manufacturer: Wurth Elektronik; Frequency Stability: 15ppm; Load Capacitance: 10pF; Category: Crystals; Match Code: WE-XTAL; ComponentLink1Description: Website Link; ComponentLink1URL: https://www.we-online.com/redexpert/article/830108174209?ad; ComponentLink2Description: Datasheet Link; ComponentLink2URL: https://www.we-online.com/redexpert/spec/830108174209?ad; Mount: Surface Mount; Min Operating Temperature: -40°C; Max Operating Temperature: 85°C; Packaging: Tape and Reel; Case/Size Code: CFPX-180; Length: 3.2mm; Width: 2.5mm; Height: 0.8mm; Application: Processor, USB, 3G/4G/5G, Ethernet, Small Cell, PHY, PCI Express; Frequency: 25 MHz; Frequency Tolerance: ±10ppm
footprint WE-XTAL_CFPX-180
pins: 1 Crystal, 2 GND&Lid, 3 Crystal, 4 GND&Lid

## 830108178109
designator Y?, comment 16 MHz
WE-XTAL Quartz Crystal, SMT, IQXC-42, 16 MHz, ±10ppm; Manufacturer Part Number: 830108178109; Manufacturer: Wurth Elektronik; Frequency Stability: 20ppm; Load Capacitance: 8pF; Category: Crystals; Match Code: WE-XTAL; ComponentLink1Description: Website Link; ComponentLink1URL: https://www.we-online.com/redexpert/article/830108178109?ad; ComponentLink2Description: Datasheet Link; ComponentLink2URL: https://www.we-online.com/redexpert/spec/830108178109?ad; Mount: Surface Mount; Min Operating Temperature: -40°C; Max Operating Temperature: 85°C; Packaging: Tape and Reel; Case/Size Code: IQXC-42; Length: 2mm; Width: 1.6mm; Height: 0.5mm; Application: Processor, CAN, Bluetooth; Frequency: 16 MHz; Frequency Tolerance: ±10ppm
footprint WE-XTAL_IQXC-42
pins: 1 Crystal, 2 GND & Lid, 3 Crystal, 4 GND & Lid

## 830108186509
designator Y?, comment 26 MHz
WE-XTAL Quartz Crystal, SMT, CFPX-218, 26 MHz, ±10ppm; Manufacturer Part Number: 830108186509; Manufacturer: Wurth Elektronik; Load Capacitance: 10pF; Category: Crystals; Match Code: WE-XTAL; ComponentLink1Description: Website Link; ComponentLink1URL: https://www.we-online.com/redexpert/article/830108186509?ad; ComponentLink2Description: Datasheet Link; ComponentLink2URL: https://www.we-online.com/redexpert/spec/830108186509?ad; Mount: Surface Mount; Min Operating Temperature: -20°C; Max Operating Temperature: 70°C; Packaging: Tape and Reel; Case/Size Code: CFPX-218; Length: 2.5mm; Width: 2mm; Height: 0.65mm; Application: CAN, Bluetooth, GPS, Small Cell; Frequency: 26 MHz; Frequency Stability: 10ppm; Frequency Tolerance: ±10ppm
footprint WE-XTAL_CFPX-218
pins: 1 Crystal, 2 GND, 3 Crystal, 4 GND

## 830108206909
designator Y?, comment 12 MHz
WE-XTAL Quartz Crystal, SMT, CFPX-180, 12 MHz, ±10ppm; Manufacturer Part Number: 830108206909; Manufacturer: Wurth Elektronik; Frequency Stability: 20ppm; Load Capacitance: 8pF; Category: Crystals; Match Code: WE-XTAL; ComponentLink1Description: Website Link; ComponentLink1URL: https://www.we-online.com/redexpert/article/830108206909?ad; ComponentLink2Description: Datasheet Link; ComponentLink2URL: https://www.we-online.com/redexpert/spec/830108206909?ad; Mount: Surface Mount; Min Operating Temperature: -40°C; Max Operating Temperature: 85°C; Packaging: Tape and Reel; Case/Size Code: CFPX-180; Length: 3.2mm; Width: 2.5mm; Height: 0.8mm; Application: Processor, USB, CAN; Frequency: 12 MHz; Frequency Tolerance: ±10ppm
footprint WE-XTAL_CFPX-180
pins: 1 Crystal, 2 GND&Lid, 3 Crystal, 4 GND&Lid

## 830108207109
designator Y?, comment 16 MHz
WE-XTAL Quartz Crystal, SMT, CFPX-180, 16 MHz, ±10ppm; Manufacturer Part Number: 830108207109; Manufacturer: Wurth Elektronik; Frequency Stability: 20ppm; Load Capacitance: 8pF; Category: Crystals; Match Code: WE-XTAL; ComponentLink1Description: Website Link; ComponentLink1URL: https://www.we-online.com/redexpert/article/830108207109?ad; ComponentLink2Description: Datasheet Link; ComponentLink2URL: https://www.we-online.com/redexpert/spec/830108207109?ad; Mount: Surface Mount; Min Operating Temperature: -40°C; Max Operating Temperature: 85°C; Packaging: Tape and Reel; Case/Size Code: CFPX-180; Length: 3.2mm; Width: 2.5mm; Height: 0.8mm; Application: Processor, CAN, Bluetooth; Frequency: 16 MHz; Frequency Tolerance: ±10ppm
footprint WE-XTAL_CFPX-180
pins: 1 Crystal, 2 GND&Lid, 3 Crystal, 4 GND&Lid

## 830108207209
designator Y?, comment 20 MHz
WE-XTAL Quartz Crystal, SMT, CFPX-180, 20 MHz, ±10ppm; Manufacturer Part Number: 830108207209; Manufacturer: Wurth Elektronik; Frequency Stability: 20ppm; Load Capacitance: 8pF; Category: Crystals; Match Code: WE-XTAL; ComponentLink1Description: Website Link; ComponentLink1URL: https://www.we-online.com/redexpert/article/830108207209?ad; ComponentLink2Description: Datasheet Link; ComponentLink2URL: https://www.we-online.com/redexpert/spec/830108207209?ad; Mount: Surface Mount; Min Operating Temperature: -40°C; Max Operating Temperature: 85°C; Packaging: Tape and Reel; Case/Size Code: CFPX-180; Length: 3.2mm; Width: 2.5mm; Height: 0.8mm; Application: Processor, CAN, USB, Ethernet, Wi-Fi; Frequency: 20 MHz; Frequency Tolerance: ±10ppm
footprint WE-XTAL_CFPX-180
pins: 1 Crystal, 2 GND&Lid, 3 Crystal, 4 GND&Lid

## 830108207309
designator Y?, comment 24 MHz
WE-XTAL Quartz Crystal, SMT, CFPX-180, 24 MHz, ±10ppm; Manufacturer Part Number: 830108207309; Manufacturer: Wurth Elektronik; Frequency Stability: 20ppm; Load Capacitance: 8pF; Category: Crystals; Match Code: WE-XTAL; ComponentLink1Description: Website Link; ComponentLink1URL: https://www.we-online.com/redexpert/article/830108207309?ad; ComponentLink2Description: Datasheet Link; ComponentLink2URL: https://www.we-online.com/redexpert/spec/830108207309?ad; Mount: Surface Mount; Min Operating Temperature: -40°C; Max Operating Temperature: 85°C; Packaging: Tape and Reel; Case/Size Code: CFPX-180; Length: 3.2mm; Width: 2.5mm; Height: 0.8mm; Application: Processor, USB, Bluetooth; Frequency: 24 MHz; Frequency Tolerance: ±10ppm
footprint WE-XTAL_CFPX-180
pins: 1 Crystal, 2 GND&Lid, 3 Crystal, 4 GND&Lid

## 830108207409
designator Y?, comment 27 MHz
WE-XTAL Quartz Crystal, SMT, CFPX-180, 27 MHz, ±10ppm; Manufacturer Part Number: 830108207409; Manufacturer: Wurth Elektronik; Frequency Stability: 20ppm; Load Capacitance: 8pF; Category: Crystals; Match Code: WE-XTAL; ComponentLink1Description: Website Link; ComponentLink1URL: https://www.we-online.com/redexpert/article/830108207409?ad; ComponentLink2Description: Datasheet Link; ComponentLink2URL: https://www.we-online.com/redexpert/spec/830108207409?ad; Mount: Surface Mount; Min Operating Temperature: -40°C; Max Operating Temperature: 85°C; Packaging: Tape and Reel; Case/Size Code: CFPX-180; Length: 3.2mm; Width: 2.5mm; Height: 0.8mm; Application: Processor; Frequency: 27 MHz; Frequency Tolerance: ±10ppm
footprint WE-XTAL_CFPX-180
pins: 1 Crystal, 2 GND&Lid, 3 Crystal, 4 GND&Lid

## 830108207509
designator Y?, comment 30 MHz
WE-XTAL Quartz Crystal, SMT, CFPX-180, 30 MHz, ±10ppm; Manufacturer Part Number: 830108207509; Manufacturer: Wurth Elektronik; Frequency Stability: 20ppm; Load Capacitance: 8pF; Category: Crystals; Match Code: WE-XTAL; ComponentLink1Description: Website Link; ComponentLink1URL: https://www.we-online.com/redexpert/article/830108207509?ad; ComponentLink2Description: Datasheet Link; ComponentLink2URL: https://www.we-online.com/redexpert/spec/830108207509?ad; Mount: Surface Mount; Min Operating Temperature: -40°C; Max Operating Temperature: 85°C; Packaging: Tape and Reel; Case/Size Code: CFPX-180; Length: 3.2mm; Width: 2.5mm; Height: 0.8mm; Application: Processor, USB; Frequency: 30 MHz; Frequency Tolerance: ±10ppm
footprint WE-XTAL_CFPX-180
pins: 1 Crystal, 2 GND&Lid, 3 Crystal, 4 GND&Lid

## 830108207609
designator Y?, comment 32 MHz
WE-XTAL Quartz Crystal, SMT, CFPX-180, 32 MHz, ±10ppm; Manufacturer Part Number: 830108207609; Manufacturer: Wurth Elektronik; Frequency Stability: 20ppm; Load Capacitance: 8pF; Category: Crystals; Match Code: WE-XTAL; ComponentLink1Description: Website Link; ComponentLink1URL: https://www.we-online.com/redexpert/article/830108207609?ad; ComponentLink2Description: Datasheet Link; ComponentLink2URL: https://www.we-online.com/redexpert/spec/830108207609?ad; Mount: Surface Mount; Min Operating Temperature: -40°C; Max Operating Temperature: 85°C; Packaging: Tape and Reel; Case/Size Code: CFPX-180; Length: 3.2mm; Width: 2.5mm; Height: 0.8mm; Application: Processor, Bluetooth; Frequency: 32 MHz; Frequency Tolerance: ±10ppm
footprint WE-XTAL_CFPX-180
pins: 1 Crystal, 2 GND&Lid, 3 Crystal, 4 GND&Lid

## 830108207709
designator Y?, comment 40 MHz
WE-XTAL Quartz Crystal, SMT, CFPX-180, 40 MHz, ±10ppm; Manufacturer Part Number: 830108207709; Manufacturer: Wurth Elektronik; Frequency Stability: 20ppm; Load Capacitance: 8pF; Category: Crystals; Match Code: WE-XTAL; ComponentLink1Description: Website Link; ComponentLink1URL: https://www.we-online.com/redexpert/article/830108207709?ad; ComponentLink2Description: Datasheet Link; ComponentLink2URL: https://www.we-online.com/redexpert/spec/830108207709?ad; Mount: Surface Mount; Min Operating Temperature: -40°C; Max Operating Temperature: 85°C; Packaging: Tape and Reel; Case/Size Code: CFPX-180; Length: 3.2mm; Width: 2.5mm; Height: 0.8mm; Application: Processor, USB, 3G/4G/5G, CAN, Wi-Fi; Frequency: 40 MHz; Frequency Tolerance: ±10ppm
footprint WE-XTAL_CFPX-180
pins: 1 Crystal, 2 GND&Lid, 3 Crystal, 4 GND&Lid

## 830108207809
designator Y?, comment 50 MHz
WE-XTAL Quartz Crystal, SMT, CFPX-180, 50 MHz, ±10ppm; Manufacturer Part Number: 830108207809; Manufacturer: Wurth Elektronik; Frequency Stability: 20ppm; Load Capacitance: 8pF; Category: Crystals; Match Code: WE-XTAL; ComponentLink1Description: Website Link; ComponentLink1URL: https://www.we-online.com/redexpert/article/830108207809?ad; ComponentLink2Description: Datasheet Link; ComponentLink2URL: https://www.we-online.com/redexpert/spec/830108207809?ad; Mount: Surface Mount; Min Operating Temperature: -40°C; Max Operating Temperature: 85°C; Packaging: Tape and Reel; Case/Size Code: CFPX-180; Length: 3.2mm; Width: 2.5mm; Height: 0.8mm; Application: Processor, Ethernet, PCI Express, PHY; Frequency: 50 MHz; Frequency Tolerance: ±10ppm
footprint WE-XTAL_CFPX-180
pins: 1 Crystal, 2 GND&Lid, 3 Crystal, 4 GND&Lid

## 830108208009
designator Y?, comment 19.2 MHz
WE-XTAL Quartz Crystal, SMT, CFPX-218, 19.2 MHz, ±10ppm; Manufacturer Part Number: 830108208009; Manufacturer: Wurth Elektronik; Load Capacitance: 10pF; Category: Crystals; Match Code: WE-XTAL; ComponentLink1Description: Website Link; ComponentLink1URL: https://www.we-online.com/redexpert/article/830108208009?ad; ComponentLink2Description: Datasheet Link; ComponentLink2URL: https://www.we-online.com/redexpert/spec/830108208009?ad; Mount: Surface Mount; Min Operating Temperature: -20°C; Max Operating Temperature: 70°C; Packaging: Tape and Reel; Case/Size Code: CFPX-218; Length: 2.5mm; Width: 2mm; Height: 0.65mm; Application: UART, 3G/4G/5G, Small Cell; Frequency: 19.2 MHz; Frequency Stability: 10ppm; Frequency Tolerance: ±10ppm
footprint WE-XTAL_CFPX-218
pins: 1 Crystal, 2 GND, 3 Crystal, 4 GND

## 830108208109
designator Y?, comment 20 MHz
WE-XTAL Quartz Crystal, SMT, CFPX-218, 20 MHz, ±10ppm; Manufacturer Part Number: 830108208109; Manufacturer: Wurth Elektronik; Load Capacitance: 10pF; Category: Crystals; Match Code: WE-XTAL; ComponentLink1Description: Website Link; ComponentLink1URL: https://www.we-online.com/redexpert/article/830108208109?ad; ComponentLink2Description: Datasheet Link; ComponentLink2URL: https://www.we-online.com/redexpert/spec/830108208109?ad; Mount: Surface Mount; Min Operating Temperature: -20°C; Max Operating Temperature: 70°C; Packaging: Tape and Reel; Case/Size Code: CFPX-218; Length: 2.5mm; Width: 2mm; Height: 0.65mm; Application: Processor, CAN, USB, Ethernet, Wi-Fi; Frequency: 20 MHz; Frequency Stability: 10ppm; Frequency Tolerance: ±10ppm
footprint WE-XTAL_CFPX-218
pins: 1 Crystal, 2 GND, 3 Crystal, 4 GND

## 830108208209
designator Y?, comment 24 MHz
WE-XTAL Quartz Crystal, SMT, CFPX-218, 24 MHz, ±10ppm; Manufacturer Part Number: 830108208209; Manufacturer: Wurth Elektronik; Load Capacitance: 10pF; Category: Crystals; Match Code: WE-XTAL; ComponentLink1Description: Website Link; ComponentLink1URL: https://www.we-online.com/redexpert/article/830108208209?ad; ComponentLink2Description: Datasheet Link; ComponentLink2URL: https://www.we-online.com/redexpert/spec/830108208209?ad; Mount: Surface Mount; Min Operating Temperature: -20°C; Max Operating Temperature: 70°C; Packaging: Tape and Reel; Case/Size Code: CFPX-218; Length: 2.5mm; Width: 2mm; Height: 0.65mm; Application: Processor, USB, Bluetooth; Frequency: 24 MHz; Frequency Stability: 10ppm; Frequency Tolerance: ±10ppm
footprint WE-XTAL_CFPX-218
pins: 1 Crystal, 2 GND, 3 Crystal, 4 GND